# EAGLE library part LT1965 (library LT1965_LDO)
Low Dropout Regulator
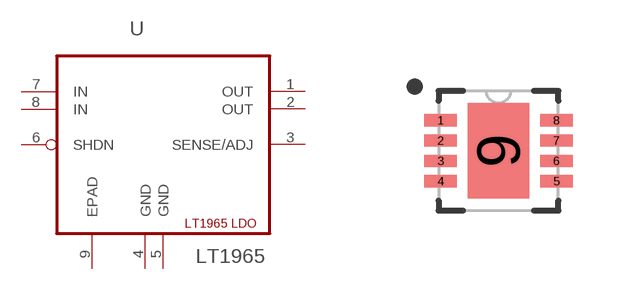
[diagram p0: symbol with the pads of DFN3X3_8LEAD; footprint DFN3X3_8LEAD]

Designator prefix U

## LT1965 (PACKAGE: DFN-8; SUPPLIER: Linear Technology)  [DFN3X3_8LEAD]
1  OUT  pwr
2  OUT  pwr
3  SENSE/ADJ  in
4  GND  pwr
5  GND  pwr
6  SHDN  in
7  IN  pwr
8  IN  pwr
9  EPAD  pwr

## Footprint DFN3X3_8LEAD (pad centres in mm)
3mmx3mm 8-Lead Plastic DFN for LT1965
smd 0.813 x 0.305: 1 -1.448,0.762; 2 -1.448,0.254; 3 -1.448,-0.254; 4 -1.448,-0.762; 5 1.448,-0.762; 6 1.448,-0.254; 7 1.448,0.254; 8 1.448,0.762
smd 1.549 x 2.388: 9 0,0